# Altium footprint library KST-51.PcbLib: 38 footprints (part 1 of 3)
Each footprint in its own frame and in the unit in brackets; x right, y up, seen from the top. Pads: shape width x height; smd on the part's side, far side on the other; paste and mask are expansions set on the pad; w line width, h text height; cw(c..) or ccw(c..) is an arc to the next point about the centre after c.
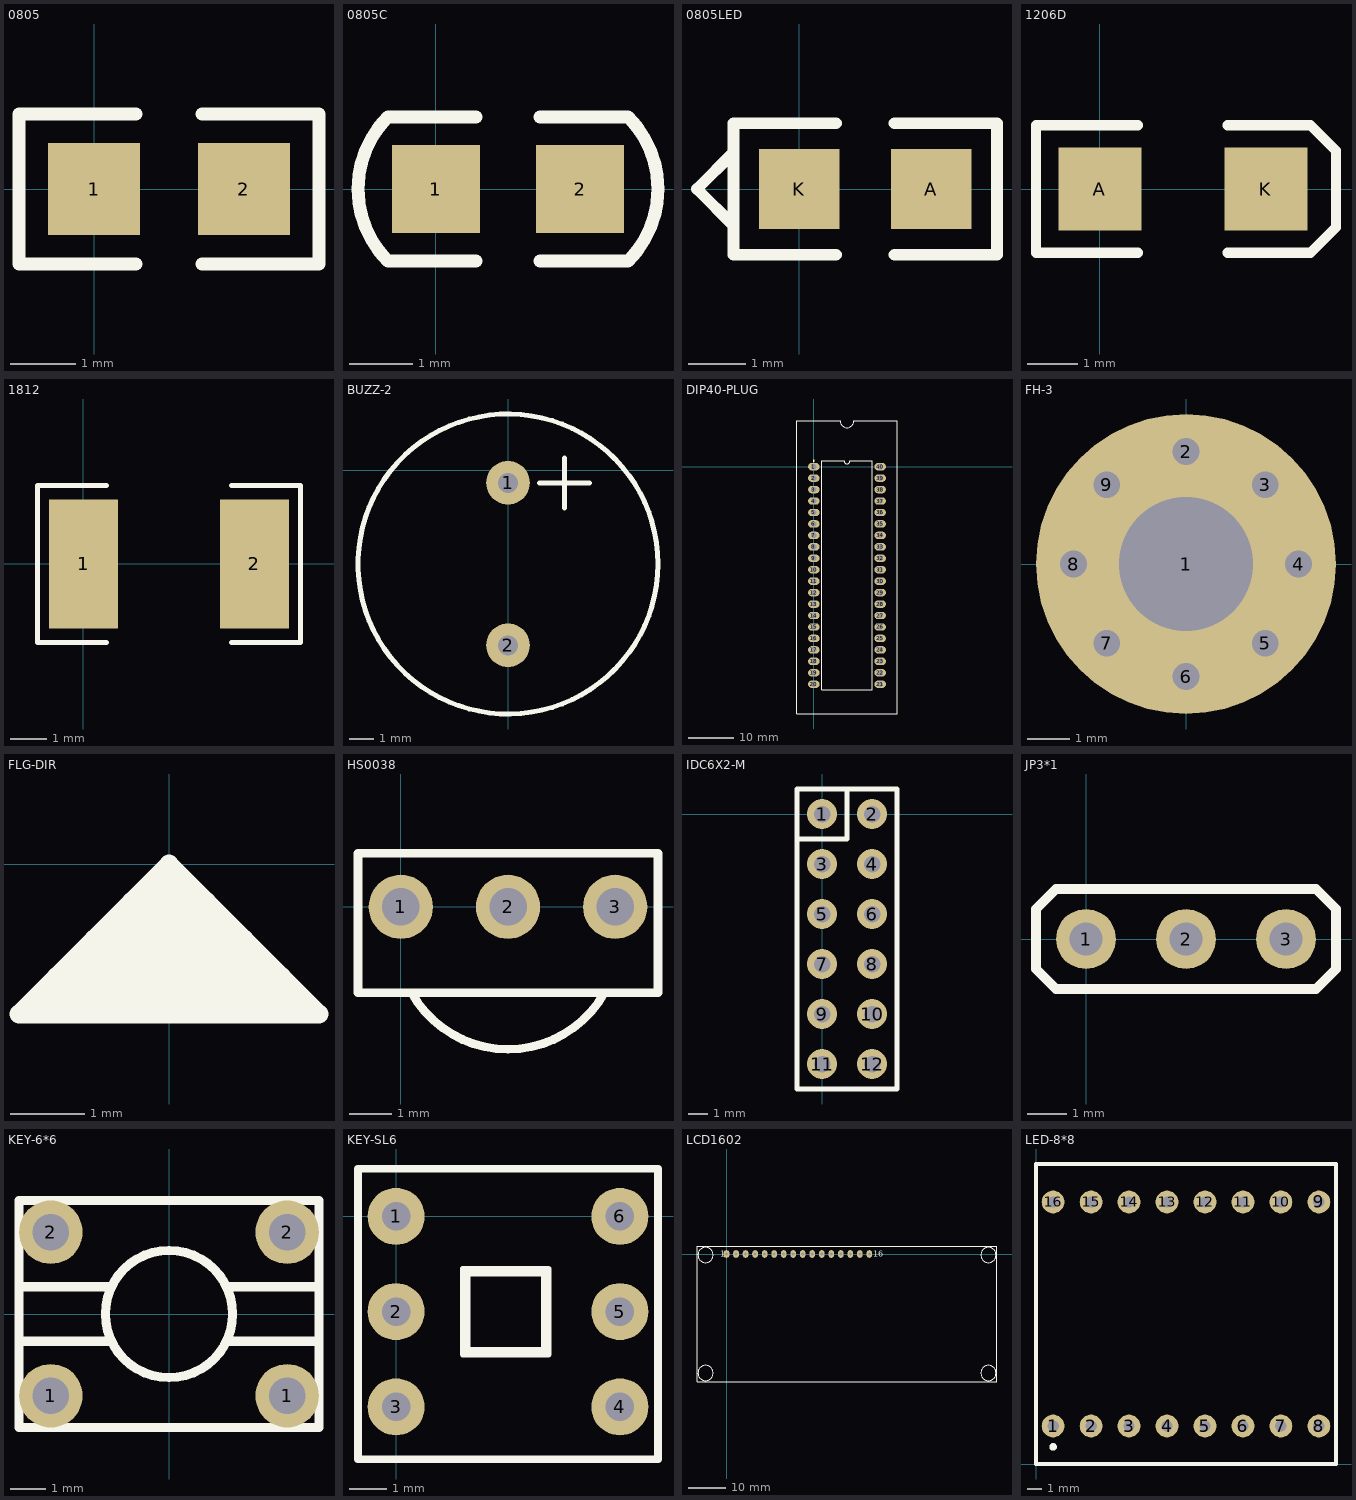
[diagram p0: the footprints below, top view; thin cyan lines are the x and y axes]

## 0805 [mil]
pads (2):
  rect 55x55 smd: 1(0,0) 2(90,0)
Top Overlay:
  lines w8: 25,-45 -45,-45 -45,45 25,45 ; 65,-45 135,-45 135,45 65,45

## 0805C [mil]
pads (2):
  rect 55x55 smd: 1(0,0) 2(90,0)
Top Overlay:
  lines w8: 25,-45 -30,-45 cw(c15,0) -30,45 25,45 ; 65,-45 120,-45 ccw(c75,0) 120,45 65,45

## 0805LED [mil]
pads (2):
  rect 55x55 smd: A(90,0) K(0,0)
Top Overlay:
  lines w8: -45,-25 -70,0 -45,25 ; 25,-45 -45,-45 -45,45 25,45 ; 65,-45 135,-45 135,45 65,45

## 1206D [mil]
pads (2):
  rect 65x65 smd: A(0,0) K(130,0)
Top Overlay:
  lines w8: 30,-50 -50,-50 -50,50 30,50 ; 100,-50 165,-50 185,-30 185,30 165,50 100,50

## 1812 [mil]
pads (2):
  rect 75x140 smd: 1(0.24,-0.1) 2(185.24,-0.1)
Top Overlay:
  lines w5: 25.24,-85.1 -49.76,-85.1 -49.76,84.9 25.24,84.9 ; 160.24,-85.1 235.24,-85.1 235.24,84.9 160.24,84.9

## BUZZ-2 [mil]
pads (2):
  round 70 hole 32: 1(0,-20) 2(0,-280)
Top Overlay:
  circle w8: c0,-150 r240
  lines w8: 50,-20 130,-20 ; 90,-60 90,20

## DIP40-PLUG [mil]
pads (40):
  oval 100x65 hole 46: 1(0,0) 2(0,-100) 3(0,-200) 4(0,-300) 5(0,-400) 6(0,-500) 7(0,-600) 8(0,-700) 9(0,-800) 10(0,-900) 11(0,-1000) 12(0,-1100) 13(0,-1200) 14(0,-1300) 15(0,-1400) 16(0,-1500) 17(0,-1600) 18(0,-1700) 19(0,-1800) 20(0,-1900) 21(580,-1900) 22(580,-1800) 23(580,-1700) 24(580,-1600) 25(580,-1500) 26(580,-1400) 27(580,-1300) 28(580,-1200) 29(580,-1100) 30(580,-1000) 31(580,-900) 32(580,-800) 33(580,-700) 34(580,-600) 35(580,-500) 36(580,-400) 37(580,-300) 38(580,-200) 39(580,-100) 40(580,0)
Top Overlay:
  circle w10: c0,50 r5
  lines w8: -150,-2160 730,-2160 730,400 350,400 cw(c290,400) 230,400 -150,400 -150,-2160
  lines w10: 70,-1950 510,-1950 510,50 315,50 cw(c290,50) 265,50 70,50 70,-1950

## FH-3 [mil]
pads (9):
  round 280 hole 125: 1(0,0)
  round 70 hole 25: 2(0,105) 3(74,74) 4(105,0) 5(74,-74) 6(0,-105) 7(-74,-74) 8(-105,0) 9(-74,74)

## FLG-DIR [mil]
Top Overlay:
  lines w10: -70,-70 0,-70 70,-70 ; -60,-60 0,-60 60,-60 ; -50,-50 0,-50 50,-50 ; -40,-40 0,-40 40,-40 ; -30,-30 0,-30 30,-30 ; -20,-20 0,-20 20,-20 ; -10,-10 10,-10 ; -80,-80 80,-80 0,0 -80,-80

## HS0038 [mil]
pads (3):
  round 60 hole 35: 1(0,0) 2(100,0) 3(200,0)
Top Overlay:
  lines w8: 10,-80 ccw(c100,-30) 190,-80 ; -40,-80 240,-80 240,50 -40,50 -40,-80

## IDC6X2-M [mil]
height 433.07
pads (12):
  round 60 hole 33: 1(0,0) 2(100,0) 3(0,-100) 4(100,-100) 5(0,-200) 6(100,-200) 7(0,-300) 8(100,-300) 9(0,-400) 10(100,-400) 11(0,-500) 12(100,-500)
Top Overlay:
  lines w10: -50,-50 50,-50 50,50 ; -50,-550 150,-550 150,50 -50,50 -50,-550

## JP3*1 [mil]
pads (3):
  round 60 hole 33: 1(0,0) 2(100,0) 3(200,0)
Top Overlay:
  lines w10: -50,-30 -50,30 -30,50 230,50 250,30 250,-30 230,-50 -30,-50 -50,-30

## KEY-6*6 [mil]
pads (4):
  round 70 hole 40: 1(-130,-90) 1(130,-90) 2(-130,90) 2(130,90)
Top Overlay:
  circle w10: c0,0 r70
  lines w10: -165,-30 -65,-30 ; -165,30 -65,30 ; 65,-30 165,-30 ; 65,30 165,30 ; -165,-125 -165,125 165,125 165,-125 -165,-125

## KEY-SL6 [mil]
pads (6):
  round 60 hole 30: 1(0,0) 2(0,-100) 3(0,-200) 4(235,-200) 5(235,-100) 6(235,0)
Top Overlay:
  lines w6: 70,-145 70,-55 160,-55 160,-145 70,-145 ; 75,-140 75,-60 155,-60 155,-140 75,-140
  lines w8: -40,-255 275,-255 275,50 -40,50 -40,-255

## LCD1602 [mil]
pads (16):
  oval 60x80 hole 33: 1(0,0) 2(100,0) 3(200,0) 4(300,0) 5(400,0) 6(500,0) 7(600,0) 8(700,0) 9(800,0) 10(900,0) 11(1000,0) 12(1100,0) 13(1200,0) 15(1400,0) 16(1500,0)
  oval 60x80 hole 32: 14(1300,0)
Top Overlay:
  circle w10: c2750,-10 r80
  circle w10: c-220,-10 r80
  circle w10: c-220,-1250 r80
  circle w10: c2750,-1250 r80
  lines w10: -310,-1340 -310,80 2840,80 2840,-1340 -310,-1340
  text "1" at -65,-30 h60
  text "16" at 1540,-30 h60

## LED-8*8 [mil]
pads (16):
  round 60 hole 30: 1(45,100) 2(145,100) 3(245,100) 4(345,100) 5(445,100) 6(545,100) 7(645,100) 8(745,100) 9(745,690) 10(645,690) 11(545,690) 12(445,690) 13(345,690) 14(245,690) 15(145,690) 16(45,690)
Top Overlay:
  circle w10: c45,45 r5
  lines w10: 0,0 790,0 790,790 0,790 0,0